# EAGLE library part JD-T1800 (library display)
160*128RGB TFT LCD with backlight. Based on ST7735 controller Communication via SPI.
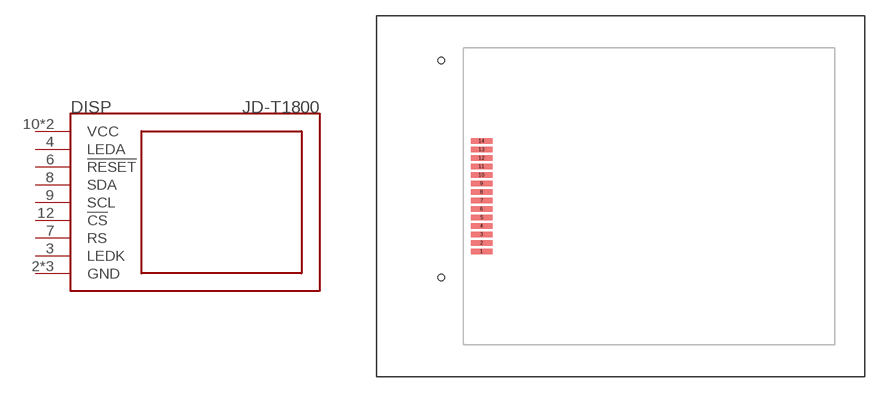
[diagram p2: symbol with the pads of JD-T1800; footprint JD-T1800]

Designator prefix DISP

## JD-T1800  [JD-T1800]
2  GND  pwr
3  LEDK  in
4  LEDA  in
5  GND  pwr
6  !RESET!  in
7  RS  in
8  SDA
9  SCL  in
10  VCC  pwr
11  VCC  pwr
12  !CS!  in
13  GND  pwr

## Footprint JD-T1800 (pad centres in mm)
Drawing based on JD-T18003-T01 documentation (revision 1.0) Inner rectangle designates Active Area (package center is also center of AA)
smd 2 x 0.5: 1 -15.8,-5.2; 2 -15.8,-4.4; 3 -15.8,-3.6; 4 -15.8,-2.8; 5 -15.8,-2; 6 -15.8,-1.2; 7 -15.8,-0.4; 8 -15.8,0.4; 9 -15.8,1.2; 10 -15.8,2; 11 -15.8,2.8; 12 -15.8,3.6; 13 -15.8,4.4; 14 -15.8,5.2
hole 0.6 at -19.6,12.8
hole 0.6 at -19.6,-7.65